# Altium footprint library gct_rfpc-sma14-fn-a.PcbLib: 1 footprints
Each footprint in its own frame and in the unit in brackets; x right, y up, seen from the top. Pads: shape width x height; smd on the part's side, far side on the other; paste and mask are expansions set on the pad; w line width, h text height; cw(c..) or ccw(c..) is an arc to the next point about the centre after c.
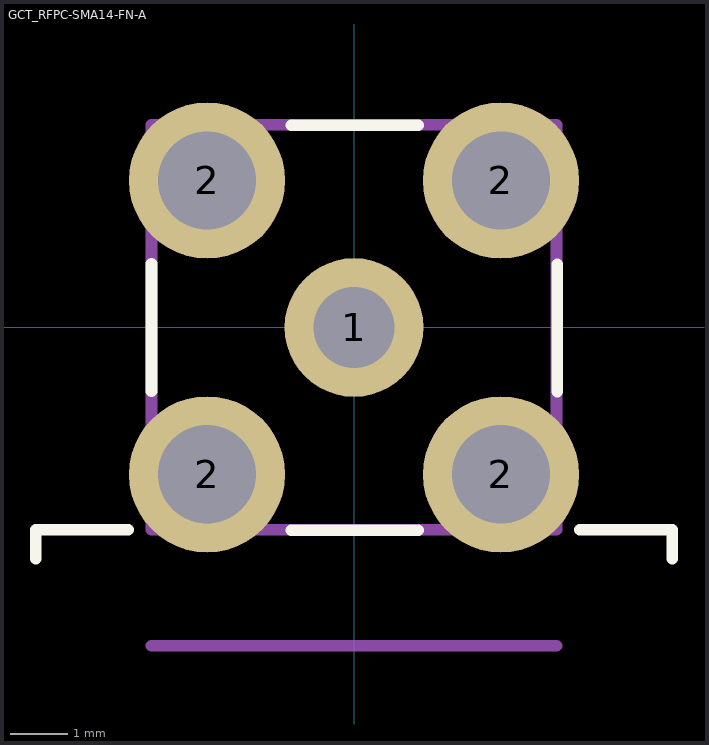
[diagram p0: the footprint, top view; thin cyan lines are the x and y axes]

## GCT_RFPC-SMA14-FN-A [mm]
height 12.44
pads (5):
  round 2.4 hole 1.4: 1(0,0)
  round 2.7 hole 1.7: 2(-2.54,-2.54) 2(-2.54,2.54) 2(2.54,-2.54) 2(2.54,2.54)
Top Overlay:
  lines w0.2: -5.5,-4 -5.5,-3.5 -3.9,-3.5 ; -3.5,-1.1 -3.5,1.1 ; -1.086,-3.507 1.114,-3.507 ; -1.086,3.493 1.114,3.493 ; 3.514,-1.107 3.514,1.093 ; 3.9,-3.5 5.5,-3.5 5.5,-4
Mechanical 1:
  text ".Designator" at -1.28,-0.18 h0.6
Top 3D Body (Mech13):
  lines w0.2: -3.5,-5.5 3.5,-5.5 ; -3.5,-3.5 -3.5,3.5 3.5,3.5 3.5,-3.5 -3.5,-3.5
  text "Sealing surface" at -4.08,-6.38 h0.6
3D body "RFPC-SMA14-FN_rev1.5.STEP": height 12.44, standoff -3.93, extent -5.5,-16.9 5.5,3.5